# EAGLE library part VL6180-X (library micromouse)
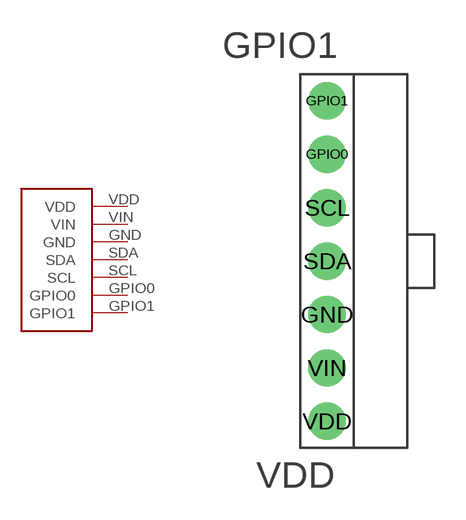
[diagram p4: symbol with the pads of VL6180-X; footprint VL6180-X]

Designator prefix -

## VL6180-X  [VL6180-X]
GND  GND
GPIO0  GPIO0
GPIO1  GPIO1
SCL  SCL
SDA  SDA
VDD  VDD
VIN  VIN

## Footprint VL6180-X (pad centres in mm)
drill 1.016 pad 1.778: GND 1.27,3.81; GPIO0 1.27,11.43; GPIO1 1.27,13.97; SCL 1.27,8.89; SDA 1.27,6.35; VIN 1.27,1.27
drill 1 pad 1.778: VDD 1.27,-1.27